# Altium schematic symbol library Microchip Power Management MOSFET Driver.SchLib: 509 symbols (part 13 of 13)
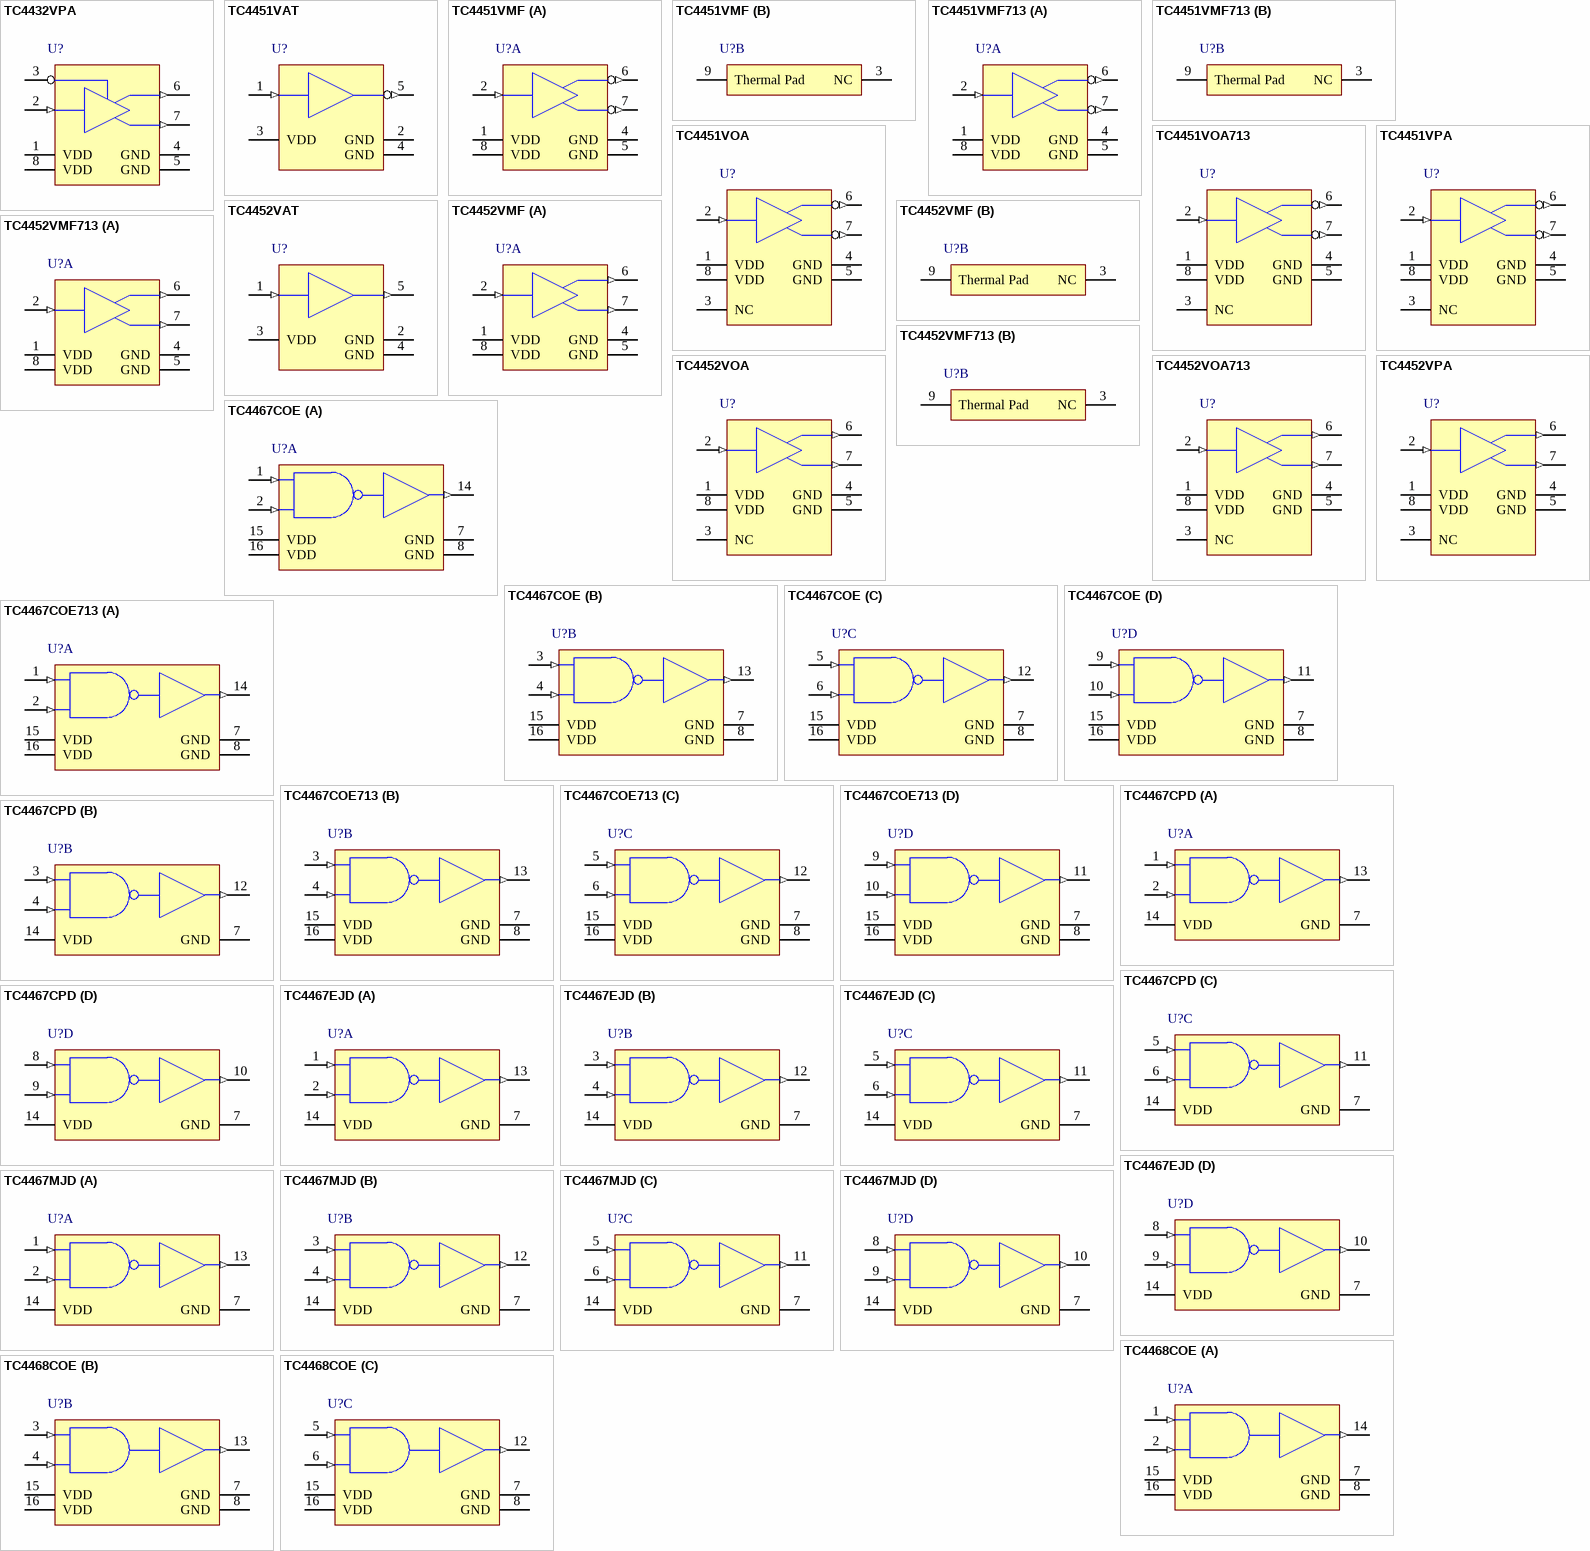
[diagram p38: symbols TC4432VPA to TC4468COE]

## TC4451VOA713
designator U?
12A High-Speed MOSFET Drivers, Inverting, Extended Temperature, Tape and Reel; Manufacturer: Microchip; PartNumber: TC4451VOA713; DatasheetVersion: revA, Feb-2006; PackageVersion: revBB, Aug-2009; PackageReference: SOIC-OA8; PackageDescription: 8-Lead Plastic Small Outline (OA) - Narrow, 3.90mm Body [SOIC]; Supplier 1: Digi-Key; Supplier Part Number 1: TC4451VOA713-ND; Supplier 2: Mouser; Supplier Part Number 2: 579-TC4451VOA713; Mounting Technology: Surface Mount; Code_IPC: SOIC127P600-8; ComponentLink1Description: Manufacturer URL; ComponentLink1URL: http://www.microchip.com/; ComponentLink2Description: Datasheet; ComponentLink2URL: http://ww1.microchip.com/downloads/en/DeviceDoc/21987a.pdf; ComponentLink3Description: Package Specification; ComponentLink3URL: http://www.microchip.com/stellent/groups/techpub_sg/documents/packagingspec/en012702.pdf
footprint SOIC-OA8_N (SOIC, 8-Leads, Body 4.9x3.9mm, Pitch 1.27mm, IPC Medium Density)
footprint SOIC-OA8_L (SOIC, 8-Leads, Body 4.9x3.9mm, Pitch 1.27mm, IPC High Density)
footprint SOIC-OA8_M (SOIC, 8-Leads, Body 4.9x3.9mm, Pitch 1.27mm, IPC Low Density)
pins: 1 VDD (power), 2 IN (in), 3 NC, 4 GND (power), 5 GND (power), 6 ~{OUT} (out), 7 ~{OUT} (out), 8 VDD (power)

## TC4451VPA
designator U?
12A High-Speed MOSFET Drivers, Inverting, Extended Temperature; Manufacturer: Microchip; PartNumber: TC4451VPA; DatasheetVersion: revA, Feb-2006; PackageVersion: revBB, Aug-2009; PackageReference: PDIP300-PA8; PackageDescription: 8-Lead Plastic Dual In-Line (PA) - 300 mil Body [PDIP]; Supplier 1: Digi-Key; Supplier Part Number 1: TC4451VPA-ND; Supplier 2: Farnell; Supplier Part Number 2: 1557420; Supplier 3: Newark; Supplier Part Number 3: 56K7434; Supplier 4: Mouser; Supplier Part Number 4: 579-TC4451VPA; Mounting Technology: Through Hole; Code_JEDEC: MS-001-BA; ComponentLink1Description: Manufacturer URL; ComponentLink1URL: http://www.microchip.com/; ComponentLink2Description: Datasheet; ComponentLink2URL: http://ww1.microchip.com/downloads/en/DeviceDoc/21987a.pdf; ComponentLink3Description: Package Specification; ComponentLink3URL: http://www.microchip.com/stellent/groups/techpub_sg/documents/packagingspec/en012702.pdf
footprint PDIP300-PA8 (DIP, 8-Leads, Row Spacing 7.62mm, Pitch 2.54mm, Body 9.5x6.6mm)
pins: 1 VDD (power), 2 IN (in), 3 NC, 4 GND (power), 5 GND (power), 6 ~{OUT} (out), 7 ~{OUT} (out), 8 VDD (power)

## TC4452VAT
designator U?
12A High-Speed MOSFET Driver, Non Inverting, Extended Temperature; Manufacturer: Microchip; PartNumber: TC4452VAT; DatasheetVersion: revA, Feb-2006; PackageVersion: revBB, Aug-2009; PackageReference: TO-220-AT5; PackageDescription: 5-Lead Plastic Transistor Outline (AT) [TO-220]; Supplier 1: Digi-Key; Supplier Part Number 1: TC4452VAT-ND; Supplier 2: Farnell; Supplier Part Number 2: 1332315; Supplier 3: Newark; Supplier Part Number 3: 34M8783; Supplier 4: Mouser; Supplier Part Number 4: 579-TC4452VAT; Mounting Technology: Through Hole; ComponentLink1Description: Manufacturer URL; ComponentLink1URL: http://www.microchip.com/; ComponentLink2Description: Datasheet; ComponentLink2URL: http://ww1.microchip.com/downloads/en/DeviceDoc/21987a.pdf; ComponentLink3Description: Package Specification; ComponentLink3URL: http://www.microchip.com/stellent/groups/techpub_sg/documents/packagingspec/en012702.pdf
footprint TO-220-AT5 (TO, Thru-Hole, Vertical, Heatsink Mounted; 5 In-Line Leads; Pitch 1.70 mm)
pins: 1 IN (in), 2 GND (power), 3 VDD (power), 4 GND (power), 5 OUT (out)

## TC4452VMF
designator U?
12A High-Speed MOSFET Drivers, Non Inverting, Extended Temperature; Manufacturer: Microchip; PartNumber: TC4452VMF; DatasheetVersion: revA, Feb-2006; PackageVersion: revBB, Aug-2009; PackageReference: DFN-MF8; PackageDescription: 8-Lead Plastic Dual Flat, No Lead Package (MF) - 3x3x0.9mm Body [DFN]; Supplier 1: Digi-Key; Supplier Part Number 1: TC4452VMF-ND; Supplier 2: Mouser; Supplier Part Number 2: 579-TC4452VMF; Mounting Technology: Surface Mount; ComponentLink1Description: Manufacturer URL; ComponentLink1URL: http://www.microchip.com/; ComponentLink2Description: Datasheet; ComponentLink2URL: http://ww1.microchip.com/downloads/en/DeviceDoc/21987a.pdf; ComponentLink3Description: Package Specification; ComponentLink3URL: http://www.microchip.com/stellent/groups/techpub_sg/documents/packagingspec/en012702.pdf
footprint DFN-MF8 (SON, 8-Leads, Body 3x3mm, Pitch 0.65mm, Microchip Recommended)
part A pins: 1 VDD (power), 2 IN (in), 4 GND (power), 5 GND (power), 6 OUT (out), 7 OUT (out), 8 VDD (power)
part B pins: 3 NC, 9 Thermal Pad

## TC4452VMF713
designator U?
12A High-Speed MOSFET Drivers, Non Inverting, Extended Temperature, Tape and Reel; Manufacturer: Microchip; PartNumber: TC4452VMF713; DatasheetVersion: revA, Feb-2006; PackageVersion: revBB, Aug-2009; PackageReference: DFN-MF8; PackageDescription: 8-Lead Plastic Dual Flat, No Lead Package (MF) - 3x3x0.9mm Body [DFN]; Supplier 1: Digi-Key; Supplier Part Number 1: TC4452VMF713-ND; Supplier 2: Mouser; Supplier Part Number 2: 579-TC4452VMF713; Mounting Technology: Surface Mount; ComponentLink1Description: Manufacturer URL; ComponentLink1URL: http://www.microchip.com/; ComponentLink2Description: Datasheet; ComponentLink2URL: http://ww1.microchip.com/downloads/en/DeviceDoc/21987a.pdf; ComponentLink3Description: Package Specification; ComponentLink3URL: http://www.microchip.com/stellent/groups/techpub_sg/documents/packagingspec/en012702.pdf
footprint DFN-MF8 (SON, 8-Leads, Body 3x3mm, Pitch 0.65mm, Microchip Recommended)
part A pins: 1 VDD (power), 2 IN (in), 4 GND (power), 5 GND (power), 6 OUT (out), 7 OUT (out), 8 VDD (power)
part B pins: 3 NC, 9 Thermal Pad

## TC4452VOA
designator U?
12A High-Speed MOSFET Drivers, Non Inverting, Extended Temperature; Manufacturer: Microchip; PartNumber: TC4452VOA; DatasheetVersion: revA, Feb-2006; PackageVersion: revBB, Aug-2009; PackageReference: SOIC-OA8; PackageDescription: 8-Lead Plastic Small Outline (OA) - Narrow, 3.90mm Body [SOIC]; Supplier 1: Digi-Key; Supplier Part Number 1: TC4452VOA-ND; Supplier 2: Farnell; Supplier Part Number 2: 1332316; Supplier 3: Newark; Supplier Part Number 3: 56K7438; Supplier 4: Mouser; Supplier Part Number 4: 579-TC4452VOA; Mounting Technology: Surface Mount; Code_IPC: SOIC127P600-8; ComponentLink1Description: Manufacturer URL; ComponentLink1URL: http://www.microchip.com/; ComponentLink2Description: Datasheet; ComponentLink2URL: http://ww1.microchip.com/downloads/en/DeviceDoc/21987a.pdf; ComponentLink3Description: Package Specification; ComponentLink3URL: http://www.microchip.com/stellent/groups/techpub_sg/documents/packagingspec/en012702.pdf
footprint SOIC-OA8_N (SOIC, 8-Leads, Body 4.9x3.9mm, Pitch 1.27mm, IPC Medium Density)
footprint SOIC-OA8_L (SOIC, 8-Leads, Body 4.9x3.9mm, Pitch 1.27mm, IPC High Density)
footprint SOIC-OA8_M (SOIC, 8-Leads, Body 4.9x3.9mm, Pitch 1.27mm, IPC Low Density)
pins: 1 VDD (power), 2 IN (in), 3 NC, 4 GND (power), 5 GND (power), 6 OUT (out), 7 OUT (out), 8 VDD (power)

## TC4452VOA713
designator U?
12A High-Speed MOSFET Drivers, Non Inverting, Extended Temperature, Tape and Reel; Manufacturer: Microchip; PartNumber: TC4452VOA713; DatasheetVersion: revA, Feb-2006; PackageVersion: revBB, Aug-2009; PackageReference: SOIC-OA8; PackageDescription: 8-Lead Plastic Small Outline (OA) - Narrow, 3.90mm Body [SOIC]; Supplier 1: Digi-Key; Supplier Part Number 1: TC4452VOA713-ND; Supplier 2: Mouser; Supplier Part Number 2: 579-TC4452VOA713; Mounting Technology: Surface Mount; Code_IPC: SOIC127P600-8; ComponentLink1Description: Manufacturer URL; ComponentLink1URL: http://www.microchip.com/; ComponentLink2Description: Datasheet; ComponentLink2URL: http://ww1.microchip.com/downloads/en/DeviceDoc/21987a.pdf; ComponentLink3Description: Package Specification; ComponentLink3URL: http://www.microchip.com/stellent/groups/techpub_sg/documents/packagingspec/en012702.pdf
footprint SOIC-OA8_N (SOIC, 8-Leads, Body 4.9x3.9mm, Pitch 1.27mm, IPC Medium Density)
footprint SOIC-OA8_L (SOIC, 8-Leads, Body 4.9x3.9mm, Pitch 1.27mm, IPC High Density)
footprint SOIC-OA8_M (SOIC, 8-Leads, Body 4.9x3.9mm, Pitch 1.27mm, IPC Low Density)
pins: 1 VDD (power), 2 IN (in), 3 NC, 4 GND (power), 5 GND (power), 6 OUT (out), 7 OUT (out), 8 VDD (power)

## TC4452VPA
designator U?
12A High-Speed MOSFET Drivers, Non Inverting, Extended Temperature; Manufacturer: Microchip; PartNumber: TC4452VPA; DatasheetVersion: revA, Feb-2006; PackageVersion: revBB, Aug-2009; PackageReference: PDIP300-PA8; PackageDescription: 8-Lead Plastic Dual In-Line (PA) - 300 mil Body [PDIP]; Supplier 1: Digi-Key; Supplier Part Number 1: TC4452VPA-ND; Supplier 2: Farnell; Supplier Part Number 2: 1467708; Supplier 3: Newark; Supplier Part Number 3: 56K7440; Supplier 4: Mouser; Supplier Part Number 4: 579-TC4452VPA; Mounting Technology: Through Hole; Code_JEDEC: MS-001-BA; ComponentLink1Description: Manufacturer URL; ComponentLink1URL: http://www.microchip.com/; ComponentLink2Description: Datasheet; ComponentLink2URL: http://ww1.microchip.com/downloads/en/DeviceDoc/21987a.pdf; ComponentLink3Description: Package Specification; ComponentLink3URL: http://www.microchip.com/stellent/groups/techpub_sg/documents/packagingspec/en012702.pdf
footprint PDIP300-PA8 (DIP, 8-Leads, Row Spacing 7.62mm, Pitch 2.54mm, Body 9.5x6.6mm)
pins: 1 VDD (power), 2 IN (in), 3 NC, 4 GND (power), 5 GND (power), 6 OUT (out), 7 OUT (out), 8 VDD (power)

## TC4467COE
designator U?
1.2A Quad MOSFET Driver, NAND, Commercial Temperature; Manufacturer: Microchip; PartNumber: TC4467COE; DatasheetVersion: revB, Feb-2003; PackageVersion: revBB, Aug-2009; PackageReference: SOIC-OE16; PackageDescription: 16-Lead Plastic Small Outline (OE) - Wide 7.50mm Body [SOIC]; Supplier 1: Digi-Key; Supplier Part Number 1: TC4467COE-ND; Supplier 2: Newark; Supplier Part Number 2: 92C6148; Supplier 3: Mouser; Supplier Part Number 3: 579-TC4467COE; Mounting Technology: Surface Mount; Code_JEDEC: MS-013-AA; Code_IPC: SOIC127P1030-16; ComponentLink1Description: Manufacturer URL; ComponentLink1URL: http://www.microchip.com/; ComponentLink2Description: Datasheet; ComponentLink2URL: http://ww1.microchip.com/downloads/en/DeviceDoc/21425b.pdf; ComponentLink3Description: Package Specification; ComponentLink3URL: http://www.microchip.com/stellent/groups/techpub_sg/documents/packagingspec/en012702.pdf
footprint SOIC-OE16_N (SOIC, 16-Leads, Body 10.3x7.5mm, Pitch 1.27mm, IPC Medium Density)
footprint SOIC-OE16_L (SOIC, 16-Leads, Body 10.3x7.5mm, Pitch 1.27mm, IPC High Density)
footprint SOIC-OE16_M (SOIC, 16-Leads, Body 10.3x7.5mm, Pitch 1.27mm, IPC Low Density)
pins on every part: 7 GND (power), 8 GND (power), 15 VDD (power), 16 VDD (power)
part A pins: 1 1A (in), 2 1B (in), 14 1Y (out)
part B pins: 3 2A (in), 4 2B (in), 13 2Y (out)
part C pins: 5 3A (in), 6 3B (in), 12 3Y (out)
part D pins: 9 4A (in), 10 4B (in), 11 4Y (out)

## TC4467COE713
designator U?
1.2A Quad MOSFET Driver, NAND, Commercial Temperature, Tape and Reel; Manufacturer: Microchip; PartNumber: TC4467COE713; DatasheetVersion: revB, Feb-2003; PackageVersion: revBB, Aug-2009; PackageReference: SOIC-OE16; PackageDescription: 16-Lead Plastic Small Outline (OE) - Wide 7.50mm Body [SOIC]; Supplier 1: Digi-Key; Supplier Part Number 1: TC4467COE713-ND; Supplier 2: Mouser; Supplier Part Number 2: 579-TC4467COE713; Mounting Technology: Surface Mount; Code_JEDEC: MS-013-AA; Code_IPC: SOIC127P1030-16; ComponentLink1Description: Manufacturer URL; ComponentLink1URL: http://www.microchip.com/; ComponentLink2Description: Datasheet; ComponentLink2URL: http://ww1.microchip.com/downloads/en/DeviceDoc/21425b.pdf; ComponentLink3Description: Package Specification; ComponentLink3URL: http://www.microchip.com/stellent/groups/techpub_sg/documents/packagingspec/en012702.pdf
footprint SOIC-OE16_N (SOIC, 16-Leads, Body 10.3x7.5mm, Pitch 1.27mm, IPC Medium Density)
footprint SOIC-OE16_L (SOIC, 16-Leads, Body 10.3x7.5mm, Pitch 1.27mm, IPC High Density)
footprint SOIC-OE16_M (SOIC, 16-Leads, Body 10.3x7.5mm, Pitch 1.27mm, IPC Low Density)
pins on every part: 7 GND (power), 8 GND (power), 15 VDD (power), 16 VDD (power)
part A pins: 1 1A (in), 2 1B (in), 14 1Y (out)
part B pins: 3 2A (in), 4 2B (in), 13 2Y (out)
part C pins: 5 3A (in), 6 3B (in), 12 3Y (out)
part D pins: 9 4A (in), 10 4B (in), 11 4Y (out)

## TC4467CPD
designator U?
1.2A Quad MOSFET Driver, NAND, Commercial Temperature; Manufacturer: Microchip; PartNumber: TC4467CPD; DatasheetVersion: revB, Feb-2003; PackageVersion: revBB, Aug-2009; PackageReference: PDIP300-PD14; PackageDescription: 14-Lead Plastic Dual In-Line (PD) - 300 mil Body [PDIP]; Supplier 1: Digi-Key; Supplier Part Number 1: TC4467CPD-ND; Supplier 2: Newark; Supplier Part Number 2: 92C6150; Supplier 3: Mouser; Supplier Part Number 3: 579-TC4467CPD; Mounting Technology: Through Hole; Code_JEDEC: MS-001-AA; ComponentLink1Description: Manufacturer URL; ComponentLink1URL: http://www.microchip.com/; ComponentLink2Description: Datasheet; ComponentLink2URL: http://ww1.microchip.com/downloads/en/DeviceDoc/21425b.pdf; ComponentLink3Description: Package Specification; ComponentLink3URL: http://www.microchip.com/stellent/groups/techpub_sg/documents/packagingspec/en012702.pdf
footprint PDIP300-PD14 (DIP, 14-Leads, Row Spacing 7.62mm, Pitch 2.54mm, Body 19.2x6.6mm)
pins on every part: 7 GND (power), 14 VDD (power)
part A pins: 1 1A (in), 2 1B (in), 13 1Y (out)
part B pins: 3 2A (in), 4 2B (in), 12 2Y (out)
part C pins: 5 3A (in), 6 3B (in), 11 3Y (out)
part D pins: 8 4A (in), 9 4B (in), 10 4Y (out)

## TC4467EJD
designator U?
1.2A Quad MOSFET Driver, NAND, Industrial Temperature; Manufacturer: Microchip; PartNumber: TC4467EJD; DatasheetVersion: revB, Feb-2003; PackageVersion: revBB, Aug-2009; PackageReference: CERDIP300-JD14; PackageDescription: 14-Lead Ceramic Dual In-Line (JD) - 300mil Body [CERDIP]; Supplier 1: Digi-Key; Supplier Part Number 1: TC4467EJD-ND; Supplier 2: Mouser; Supplier Part Number 2: 579-TC4467EJD; Mounting Technology: Through Hole; ComponentLink1Description: Manufacturer URL; ComponentLink1URL: http://www.microchip.com/; ComponentLink2Description: Datasheet; ComponentLink2URL: http://ww1.microchip.com/downloads/en/DeviceDoc/21425b.pdf; ComponentLink3Description: Package Specification; ComponentLink3URL: http://www.microchip.com/stellent/groups/techpub_sg/documents/packagingspec/en012702.pdf
footprint CERDIP300-JD14 (DIP, 14-Leads, Row Spacing 7.62mm, Pitch 2.54mm, Body 19.3x6.7mm)
pins on every part: 7 GND (power), 14 VDD (power)
part A pins: 1 1A (in), 2 1B (in), 13 1Y (out)
part B pins: 3 2A (in), 4 2B (in), 12 2Y (out)
part C pins: 5 3A (in), 6 3B (in), 11 3Y (out)
part D pins: 8 4A (in), 9 4B (in), 10 4Y (out)

## TC4467MJD
designator U?
1.2A Quad MOSFET Driver, NAND, -55C to +125C Temperature; Manufacturer: Microchip; PartNumber: TC4467MJD; DatasheetVersion: revB, Feb-2003; PackageVersion: revBB, Aug-2009; PackageReference: CERDIP300-JD14; PackageDescription: 14-Lead Ceramic Dual In-Line (JD) - 300mil Body [CERDIP]; Supplier 1: Digi-Key; Supplier Part Number 1: TC4467MJD-ND; Supplier 2: Mouser; Supplier Part Number 2: 579-TC4467MJD; Mounting Technology: Through Hole; ComponentLink1Description: Manufacturer URL; ComponentLink1URL: http://www.microchip.com/; ComponentLink2Description: Datasheet; ComponentLink2URL: http://ww1.microchip.com/downloads/en/DeviceDoc/21425b.pdf; ComponentLink3Description: Package Specification; ComponentLink3URL: http://www.microchip.com/stellent/groups/techpub_sg/documents/packagingspec/en012702.pdf
footprint CERDIP300-JD14 (DIP, 14-Leads, Row Spacing 7.62mm, Pitch 2.54mm, Body 19.3x6.7mm)
pins on every part: 7 GND (power), 14 VDD (power)
part A pins: 1 1A (in), 2 1B (in), 13 1Y (out)
part B pins: 3 2A (in), 4 2B (in), 12 2Y (out)
part C pins: 5 3A (in), 6 3B (in), 11 3Y (out)
part D pins: 8 4A (in), 9 4B (in), 10 4Y (out)

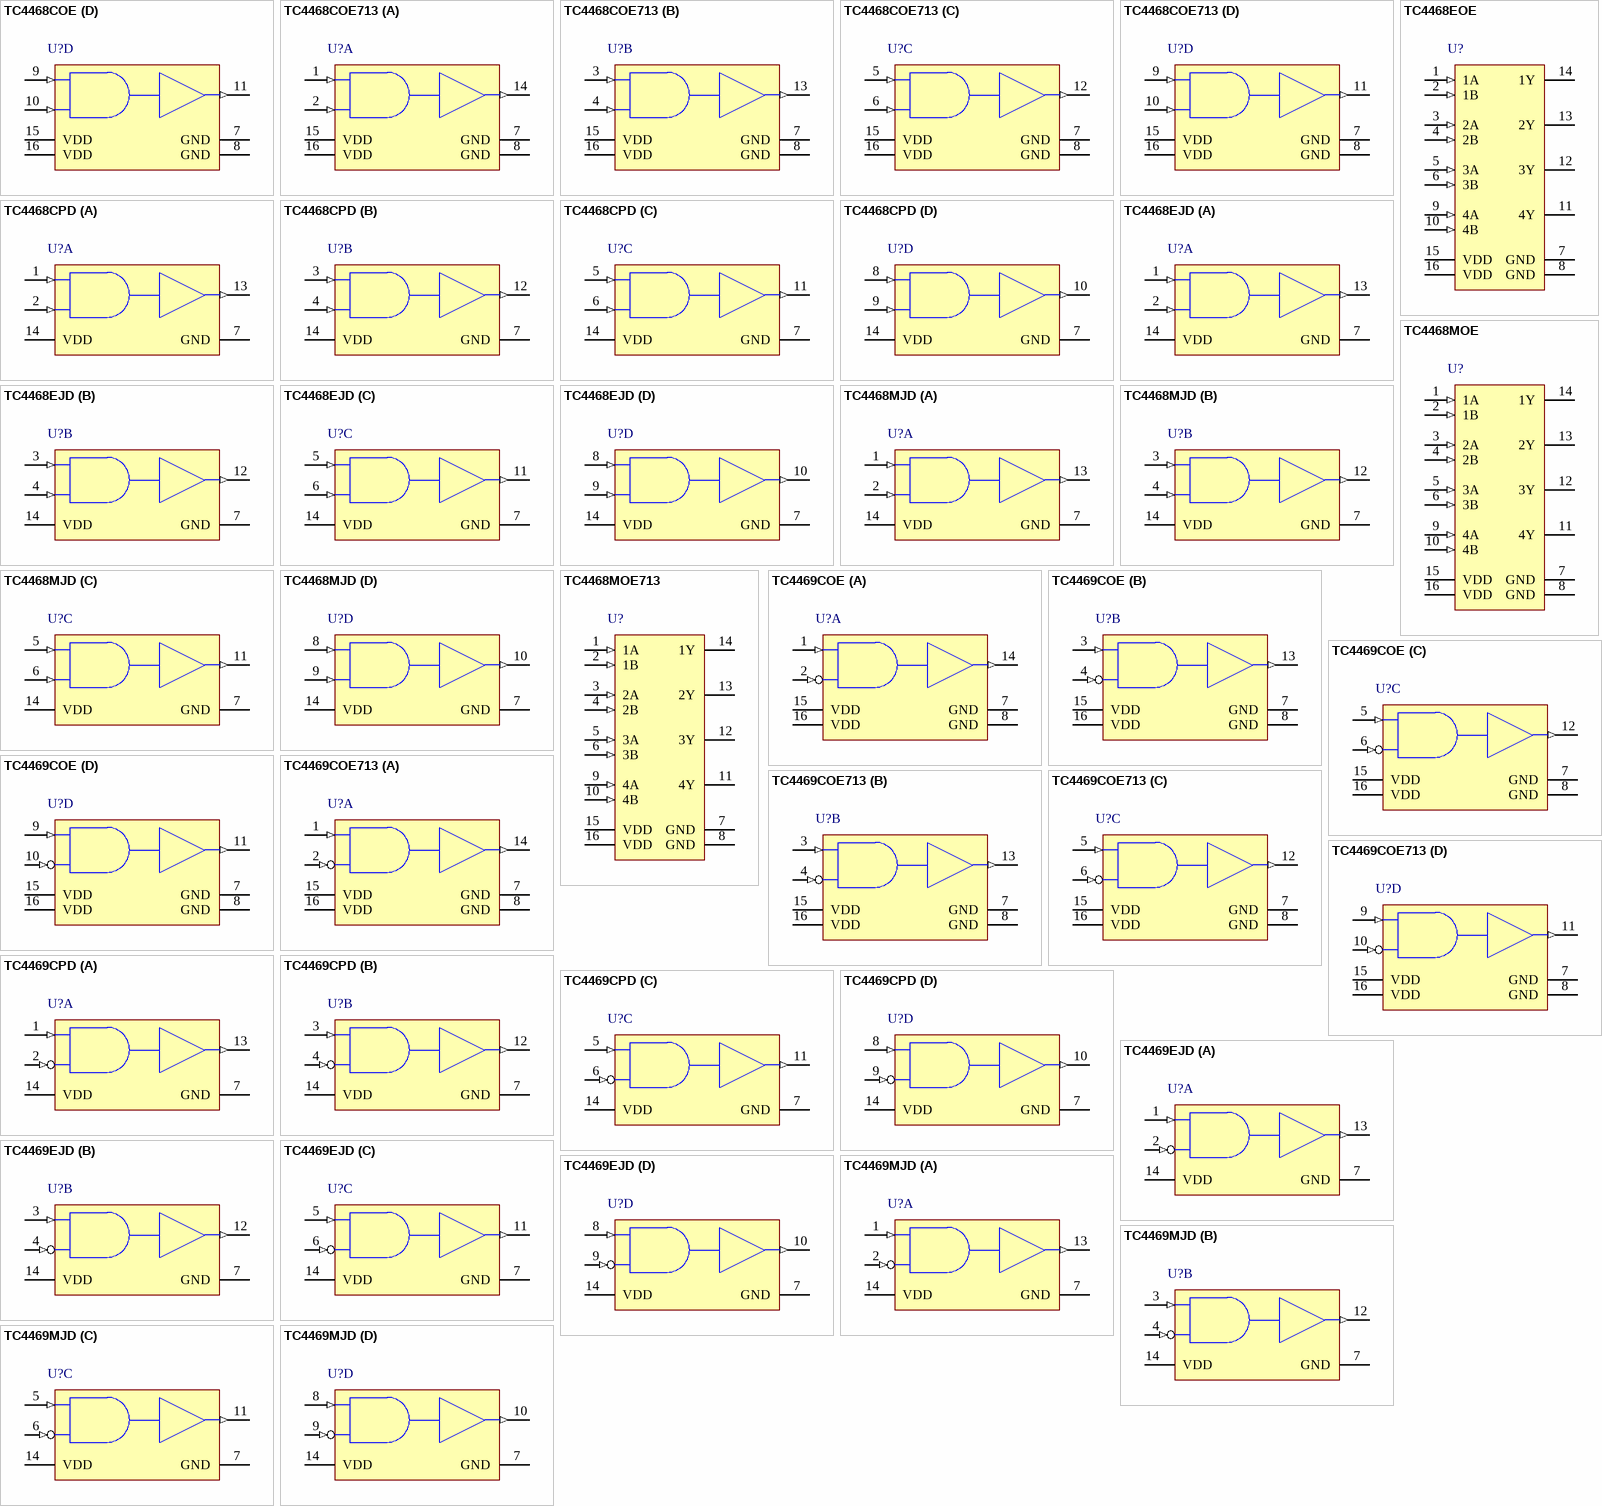
[diagram p25: symbols TC4468COE to TC4469MJD]

## TC4468COE
designator U?
1.2A Quad MOSFET Driver, AND, Commercial Temperature; Manufacturer: Microchip; PartNumber: TC4468COE; DatasheetVersion: revB, Feb-2003; PackageVersion: revBB, Aug-2009; PackageReference: SOIC-OE16; PackageDescription: 16-Lead Plastic Small Outline (OE) - Wide 7.50mm Body [SOIC]; Supplier 1: Digi-Key; Supplier Part Number 1: TC4468COE-ND; Supplier 2: Farnell; Supplier Part Number 2: 1439738; Supplier 3: Newark; Supplier Part Number 3: 92C6153; Supplier 4: Mouser; Supplier Part Number 4: 579-TC4468COE; Mounting Technology: Surface Mount; Code_JEDEC: MS-013-AA; Code_IPC: SOIC127P1030-16; ComponentLink1Description: Manufacturer URL; ComponentLink1URL: http://www.microchip.com/; ComponentLink2Description: Datasheet; ComponentLink2URL: http://ww1.microchip.com/downloads/en/DeviceDoc/21425b.pdf; ComponentLink3Description: Package Specification; ComponentLink3URL: http://www.microchip.com/stellent/groups/techpub_sg/documents/packagingspec/en012702.pdf
footprint SOIC-OE16_N (SOIC, 16-Leads, Body 10.3x7.5mm, Pitch 1.27mm, IPC Medium Density)
footprint SOIC-OE16_L (SOIC, 16-Leads, Body 10.3x7.5mm, Pitch 1.27mm, IPC High Density)
footprint SOIC-OE16_M (SOIC, 16-Leads, Body 10.3x7.5mm, Pitch 1.27mm, IPC Low Density)
pins on every part: 7 GND (power), 8 GND (power), 15 VDD (power), 16 VDD (power)
part A pins: 1 1A (in), 2 1B (in), 14 1Y (out)
part B pins: 3 2A (in), 4 2B (in), 13 2Y (out)
part C pins: 5 3A (in), 6 3B (in), 12 3Y (out)
part D pins: 9 4A (in), 10 4B (in), 11 4Y (out)

## TC4468COE713
designator U?
1.2A Quad MOSFET Driver, AND, Commercial Temperature, Tape and Reel; Manufacturer: Microchip; PartNumber: TC4468COE713; DatasheetVersion: revB, Feb-2003; PackageVersion: revBB, Aug-2009; PackageReference: SOIC-OE16; PackageDescription: 16-Lead Plastic Small Outline (OE) - Wide 7.50mm Body [SOIC]; Supplier 1: Digi-Key; Supplier Part Number 1: TC4468COE713-ND; Supplier 2: Mouser; Supplier Part Number 2: 579-TC4468COE713; Mounting Technology: Surface Mount; Code_JEDEC: MS-013-AA; Code_IPC: SOIC127P1030-16; ComponentLink1Description: Manufacturer URL; ComponentLink1URL: http://www.microchip.com/; ComponentLink2Description: Datasheet; ComponentLink2URL: http://ww1.microchip.com/downloads/en/DeviceDoc/21425b.pdf; ComponentLink3Description: Package Specification; ComponentLink3URL: http://www.microchip.com/stellent/groups/techpub_sg/documents/packagingspec/en012702.pdf
footprint SOIC-OE16_N (SOIC, 16-Leads, Body 10.3x7.5mm, Pitch 1.27mm, IPC Medium Density)
footprint SOIC-OE16_L (SOIC, 16-Leads, Body 10.3x7.5mm, Pitch 1.27mm, IPC High Density)
footprint SOIC-OE16_M (SOIC, 16-Leads, Body 10.3x7.5mm, Pitch 1.27mm, IPC Low Density)
pins on every part: 7 GND (power), 8 GND (power), 15 VDD (power), 16 VDD (power)
part A pins: 1 1A (in), 2 1B (in), 14 1Y (out)
part B pins: 3 2A (in), 4 2B (in), 13 2Y (out)
part C pins: 5 3A (in), 6 3B (in), 12 3Y (out)
part D pins: 9 4A (in), 10 4B (in), 11 4Y (out)

## TC4468CPD
designator U?
1.2A Quad MOSFET Driver, AND, Commercial Temperature; Manufacturer: Microchip; PartNumber: TC4468CPD; DatasheetVersion: revB, Feb-2003; PackageVersion: revBB, Aug-2009; PackageReference: PDIP300-PD14; PackageDescription: 14-Lead Plastic Dual In-Line (PD) - 300 mil Body [PDIP]; Supplier 1: Digi-Key; Supplier Part Number 1: TC4468CPD-ND; Supplier 2: Farnell; Supplier Part Number 2: 1557406; Supplier 3: Newark; Supplier Part Number 3: 54K2859; Supplier 4: Mouser; Supplier Part Number 4: 579-TC4468CPD; Mounting Technology: Through Hole; Code_JEDEC: MS-001-AA; ComponentLink1Description: Manufacturer URL; ComponentLink1URL: http://www.microchip.com/; ComponentLink2Description: Datasheet; ComponentLink2URL: http://ww1.microchip.com/downloads/en/DeviceDoc/21425b.pdf; ComponentLink3Description: Package Specification; ComponentLink3URL: http://www.microchip.com/stellent/groups/techpub_sg/documents/packagingspec/en012702.pdf
footprint PDIP300-PD14 (DIP, 14-Leads, Row Spacing 7.62mm, Pitch 2.54mm, Body 19.2x6.6mm)
pins on every part: 7 GND (power), 14 VDD (power)
part A pins: 1 1A (in), 2 1B (in), 13 1Y (out)
part B pins: 3 2A (in), 4 2B (in), 12 2Y (out)
part C pins: 5 3A (in), 6 3B (in), 11 3Y (out)
part D pins: 8 4A (in), 9 4B (in), 10 4Y (out)

## TC4468EJD
designator U?
1.2A Quad MOSFET Driver, AND, Industrial Temperature; Manufacturer: Microchip; PartNumber: TC4468EJD; DatasheetVersion: revB, Feb-2003; PackageVersion: revBB, Aug-2009; PackageReference: CERDIP300-JD14; PackageDescription: 14-Lead Ceramic Dual In-Line (JD) - 300mil Body [CERDIP]; Supplier 1: Digi-Key; Supplier Part Number 1: TC4468EJD-ND; Supplier 2: Mouser; Supplier Part Number 2: 579-TC4468EJD; Mounting Technology: Through Hole; ComponentLink1Description: Manufacturer URL; ComponentLink1URL: http://www.microchip.com/; ComponentLink2Description: Datasheet; ComponentLink2URL: http://ww1.microchip.com/downloads/en/DeviceDoc/21425b.pdf; ComponentLink3Description: Package Specification; ComponentLink3URL: http://www.microchip.com/stellent/groups/techpub_sg/documents/packagingspec/en012702.pdf
footprint CERDIP300-JD14 (DIP, 14-Leads, Row Spacing 7.62mm, Pitch 2.54mm, Body 19.3x6.7mm)
pins on every part: 7 GND (power), 14 VDD (power)
part A pins: 1 1A (in), 2 1B (in), 13 1Y (out)
part B pins: 3 2A (in), 4 2B (in), 12 2Y (out)
part C pins: 5 3A (in), 6 3B (in), 11 3Y (out)
part D pins: 8 4A (in), 9 4B (in), 10 4Y (out)

## TC4468EOE
designator U?
Logic-Input CMOS Quad Drivers, Max Supply Voltage 18 V, -40 to 85 degC, 16-pin SOIC (SO16), Tube; Manufacturer: Microchip; PartNumber: TC4468EOE; DatasheetVersion: Rev. B; PackageVersion: C04-102C; PackageReference: SOIC-SO16; PackageDescription: 16-Lead Plastic Small Outline, 10.3 x 7.5 mm Body, 1.27 mm Pitch; Supplier 1: Digi-Key; Supplier Part Number 1: TC4468EOE-ND; Supplier 2: Farnell; Supplier Part Number 2: 1840858; Supplier 3: Newark; Supplier Part Number 3: 56J8344; Supplier 4: Mouser; Supplier Part Number 4: 579-TC4468EOE; Mounting Technology: Surface Mount; ComponentLink1Description: Manufacturer URL; ComponentLink1URL: http://www.microchip.com; ComponentLink2Description: Datasheet; ComponentLink2URL: http://ww1.microchip.com/downloads/en/DeviceDoc/21425b.pdf; ComponentLink3Description: Package Specification; ComponentLink3URL: http://www.microchip.com/stellent/groups/techpub_sg/documents/packagingspec/en012702.pdf; ComponentLink4Description: Product URL; ComponentLink4URL: http://www.microchip.com/TC4468
footprint MCHP-SOIC-SO16_N (SOIC, 16-Leads, Body 10.3x7.5mm, Pitch 1.27mm, IPC Medium Density)
footprint MCHP-SOIC-SO16_L (SOIC, 16-Leads, Body 10.3x7.5mm, Pitch 1.27mm, IPC High Density)
footprint MCHP-SOIC-SO16_M (SOIC, 16-Leads, Body 10.3x7.5mm, Pitch 1.27mm, IPC Low Density)
pins: 1 1A (in) "Input A for Driver 1, TTL/CMOS Compatible Input", 2 1B (in) "Input B for Driver 1, TTL/CMOS Compatible Input", 3 2A (in) "Input A for Driver 2, TTL/CMOS Compatible Input", 4 2B (in) "Input B for Driver 2, TTL/CMOS Compatible Input", 5 3A (in) "Input A for Driver 3, TTL/CMOS Compatible Input", 6 3B (in) "Input B for Driver 3, TTL/CMOS Compatible Input", 7 GND (power) "Ground", 8 GND (power) "Ground", 9 4A (in) "Input A for Driver 4, TTL/CMOS Compatible Input", 10 4B (in) "Input B for Driver 4, TTL/CMOS Compatible Input", 11 4Y (power) "Output for Driver 4, CMOS Push-Pull Output", 12 3Y (power) "Output for Driver 3, CMOS Push-Pull Output", 13 2Y (power) "Output for Driver 2, CMOS Push-Pull Output", 14 1Y (power) "Output for Driver 1, CMOS Push-Pull Output", 15 VDD (power) "Supply Input, 4.5 V to 18 V", 16 VDD (power) "Supply Input, 4.5 V to 18 V"

## TC4468MJD
designator U?
1.2A Quad MOSFET Driver, AND, -55C to +125C Temperature; Manufacturer: Microchip; PartNumber: TC4468MJD; DatasheetVersion: revB, Feb-2003; PackageVersion: revBB, Aug-2009; PackageReference: CERDIP300-JD14; PackageDescription: 14-Lead Ceramic Dual In-Line (JD) - 300mil Body [CERDIP]; Supplier 1: Digi-Key; Supplier Part Number 1: TC4468MJD-ND; Supplier 2: Mouser; Supplier Part Number 2: 579-TC4468MJD; Mounting Technology: Through Hole; ComponentLink1Description: Manufacturer URL; ComponentLink1URL: http://www.microchip.com/; ComponentLink2Description: Datasheet; ComponentLink2URL: http://ww1.microchip.com/downloads/en/DeviceDoc/21425b.pdf; ComponentLink3Description: Package Specification; ComponentLink3URL: http://www.microchip.com/stellent/groups/techpub_sg/documents/packagingspec/en012702.pdf
footprint CERDIP300-JD14 (DIP, 14-Leads, Row Spacing 7.62mm, Pitch 2.54mm, Body 19.3x6.7mm)
pins on every part: 7 GND (power), 14 VDD (power)
part A pins: 1 1A (in), 2 1B (in), 13 1Y (out)
part B pins: 3 2A (in), 4 2B (in), 12 2Y (out)
part C pins: 5 3A (in), 6 3B (in), 11 3Y (out)
part D pins: 8 4A (in), 9 4B (in), 10 4Y (out)

## TC4468MOE
designator U?
Logic-Input CMOS Quad Driver, Max Supply Voltage 18 V, -55 to 125 degC, 16-pin SOIC (SO16), Tube; Manufacturer: Microchip; PartNumber: TC4468MOE; DatasheetVersion: Rev. B; PackageVersion: C04-102C; PackageReference: SOIC-SO16; PackageDescription: 16-Lead Plastic Small Outline, 10.3 x 7.5 mm Body, 1.27 mm Pitch; Supplier 1: Mouser; Supplier Part Number 1: N/A; Mounting Technology: Surface Mount; ComponentLink1Description: Manufacturer URL; ComponentLink1URL: http://www.microchip.com; ComponentLink2Description: Datasheet; ComponentLink2URL: http://ww1.microchip.com/downloads/en/DeviceDoc/21425b.pdf; ComponentLink3Description: Package Specification; ComponentLink3URL: http://www.microchip.com/stellent/groups/techpub_sg/documents/packagingspec/en012702.pdf; ComponentLink4Description: Product URL; ComponentLink4URL: http://www.microchip.com/TC4468
footprint MCHP-SOIC-SO16_N (SOIC, 16-Leads, Body 10.3x7.5mm, Pitch 1.27mm, IPC Medium Density)
footprint MCHP-SOIC-SO16_L (SOIC, 16-Leads, Body 10.3x7.5mm, Pitch 1.27mm, IPC High Density)
footprint MCHP-SOIC-SO16_M (SOIC, 16-Leads, Body 10.3x7.5mm, Pitch 1.27mm, IPC Low Density)
pins: 1 1A (in) "Input A for Driver 1, TTL/CMOS Compatible Input", 2 1B (in) "Input B for Driver 1, TTL/CMOS Compatible Input", 3 2A (in) "Input A for Driver 2, TTL/CMOS Compatible Input", 4 2B (in) "Input B for Driver 2, TTL/CMOS Compatible Input", 5 3A (in) "Input A for Driver 3, TTL/CMOS Compatible Input", 6 3B (in) "Input B for Driver 3, TTL/CMOS Compatible Input", 7 GND (power) "Ground", 8 GND (power) "Ground", 9 4A (in) "Input A for Driver 4, TTL/CMOS Compatible Input", 10 4B (in) "Input B for Driver 4, TTL/CMOS Compatible Input", 11 4Y (power) "Output for Driver 4, CMOS Push-Pull Output", 12 3Y (power) "Output for Driver 3, CMOS Push-Pull Output", 13 2Y (power) "Output for Driver 2, CMOS Push-Pull Output", 14 1Y (power) "Output for Driver 1, CMOS Push-Pull Output", 15 VDD (power) "Supply Input, 4.5 V to 18 V", 16 VDD (power) "Supply Input, 4.5 V to 18 V"

## TC4468MOE713
designator U?
Logic-Input CMOS Quad Drivers, Max Supply Voltage 18 V, -55 to 125 degC, 16-pin SOIC (SO16), Tape and Reel; Manufacturer: Microchip; PartNumber: TC4468MOE713; DatasheetVersion: Rev. B; PackageVersion: C04-102C; PackageReference: SOIC-SO16; PackageDescription: 16-Lead Plastic Small Outline, 10.3 x 7.5 mm Body, 1.27 mm Pitch; Supplier 1: Mouser; Supplier Part Number 1: N/A; Mounting Technology: Surface Mount; ComponentLink1Description: Manufacturer URL; ComponentLink1URL: http://www.microchip.com; ComponentLink2Description: Datasheet; ComponentLink2URL: http://ww1.microchip.com/downloads/en/DeviceDoc/21425b.pdf; ComponentLink3Description: Package Specification; ComponentLink3URL: http://www.microchip.com/stellent/groups/techpub_sg/documents/packagingspec/en012702.pdf; ComponentLink4Description: Product URL; ComponentLink4URL: http://www.microchip.com/TC4468
footprint MCHP-SOIC-SO16_N (SOIC, 16-Leads, Body 10.3x7.5mm, Pitch 1.27mm, IPC Medium Density)
footprint MCHP-SOIC-SO16_L (SOIC, 16-Leads, Body 10.3x7.5mm, Pitch 1.27mm, IPC High Density)
footprint MCHP-SOIC-SO16_M (SOIC, 16-Leads, Body 10.3x7.5mm, Pitch 1.27mm, IPC Low Density)
pins: 1 1A (in) "Input A for Driver 1, TTL/CMOS Compatible Input", 2 1B (in) "Input B for Driver 1, TTL/CMOS Compatible Input", 3 2A (in) "Input A for Driver 2, TTL/CMOS Compatible Input", 4 2B (in) "Input B for Driver 2, TTL/CMOS Compatible Input", 5 3A (in) "Input A for Driver 3, TTL/CMOS Compatible Input", 6 3B (in) "Input B for Driver 3, TTL/CMOS Compatible Input", 7 GND (power) "Ground", 8 GND (power) "Ground", 9 4A (in) "Input A for Driver 4, TTL/CMOS Compatible Input", 10 4B (in) "Input B for Driver 4, TTL/CMOS Compatible Input", 11 4Y (power) "Output for Driver 4, CMOS Push-Pull Output", 12 3Y (power) "Output for Driver 3, CMOS Push-Pull Output", 13 2Y (power) "Output for Driver 2, CMOS Push-Pull Output", 14 1Y (power) "Output for Driver 1, CMOS Push-Pull Output", 15 VDD (power) "Supply Input, 4.5 V to 18 V", 16 VDD (power) "Supply Input, 4.5 V to 18 V"

## TC4469COE
designator U?
1.2A Quad MOSFET Driver, AND/INV, Commercial Temperature; Manufacturer: Microchip; PartNumber: TC4469COE; DatasheetVersion: revB, Feb-2003; PackageVersion: revBB, Aug-2009; PackageReference: SOIC-OE16; PackageDescription: 16-Lead Plastic Small Outline (OE) - Wide 7.50mm Body [SOIC]; Supplier 1: Digi-Key; Supplier Part Number 1: TC4469COE-ND; Supplier 2: Farnell; Supplier Part Number 2: 1292288; Supplier 3: Newark; Supplier Part Number 3: 92C6158; Supplier 4: Mouser; Supplier Part Number 4: 579-TC4469COE; Mounting Technology: Surface Mount; Code_JEDEC: MS-013-AA; Code_IPC: SOIC127P1030-16; ComponentLink1Description: Manufacturer URL; ComponentLink1URL: http://www.microchip.com/; ComponentLink2Description: Datasheet; ComponentLink2URL: http://ww1.microchip.com/downloads/en/DeviceDoc/21425b.pdf; ComponentLink3Description: Package Specification; ComponentLink3URL: http://www.microchip.com/stellent/groups/techpub_sg/documents/packagingspec/en012702.pdf
footprint SOIC-OE16_N (SOIC, 16-Leads, Body 10.3x7.5mm, Pitch 1.27mm, IPC Medium Density)
footprint SOIC-OE16_L (SOIC, 16-Leads, Body 10.3x7.5mm, Pitch 1.27mm, IPC High Density)
footprint SOIC-OE16_M (SOIC, 16-Leads, Body 10.3x7.5mm, Pitch 1.27mm, IPC Low Density)
pins on every part: 7 GND (power), 8 GND (power), 15 VDD (power), 16 VDD (power)
part A pins: 1 1A (in), 2 1B (in), 14 1Y (out)
part B pins: 3 2A (in), 4 2B (in), 13 2Y (out)
part C pins: 5 3A (in), 6 3B (in), 12 3Y (out)
part D pins: 9 4A (in), 10 4B (in), 11 4Y (out)

## TC4469COE713
designator U?
1.2A Quad MOSFET Driver, AND/INV, Commercial Temperature, Tape and Reel; Manufacturer: Microchip; PartNumber: TC4469COE713; DatasheetVersion: revB, Feb-2003; PackageVersion: revBB, Aug-2009; PackageReference: SOIC-OE16; PackageDescription: 16-Lead Plastic Small Outline (OE) - Wide 7.50mm Body [SOIC]; Supplier 1: Digi-Key; Supplier Part Number 1: TC4469COE713TR-ND; Supplier 2: Digi-Key; Supplier Part Number 2: TC4469COE713CT-ND; Supplier 3: Newark; Supplier Part Number 3: 92C6159; Supplier 4: Mouser; Supplier Part Number 4: 579-TC4469COE713; Mounting Technology: Surface Mount; Code_JEDEC: MS-013-AA; Code_IPC: SOIC127P1030-16; ComponentLink1Description: Manufacturer URL; ComponentLink1URL: http://www.microchip.com/; ComponentLink2Description: Datasheet; ComponentLink2URL: http://ww1.microchip.com/downloads/en/DeviceDoc/21425b.pdf; ComponentLink3Description: Package Specification; ComponentLink3URL: http://www.microchip.com/stellent/groups/techpub_sg/documents/packagingspec/en012702.pdf
footprint SOIC-OE16_N (SOIC, 16-Leads, Body 10.3x7.5mm, Pitch 1.27mm, IPC Medium Density)
footprint SOIC-OE16_L (SOIC, 16-Leads, Body 10.3x7.5mm, Pitch 1.27mm, IPC High Density)
footprint SOIC-OE16_M (SOIC, 16-Leads, Body 10.3x7.5mm, Pitch 1.27mm, IPC Low Density)
pins on every part: 7 GND (power), 8 GND (power), 15 VDD (power), 16 VDD (power)
part A pins: 1 1A (in), 2 1B (in), 14 1Y (out)
part B pins: 3 2A (in), 4 2B (in), 13 2Y (out)
part C pins: 5 3A (in), 6 3B (in), 12 3Y (out)
part D pins: 9 4A (in), 10 4B (in), 11 4Y (out)

## TC4469CPD
designator U?
1.2A Quad MOSFET Driver, AND/INV, Commercial Temperature; Manufacturer: Microchip; PartNumber: TC4469CPD; DatasheetVersion: revB, Feb-2003; PackageVersion: revBB, Aug-2009; PackageReference: PDIP300-PD14; PackageDescription: 14-Lead Plastic Dual In-Line (PD) - 300 mil Body [PDIP]; Supplier 1: Digi-Key; Supplier Part Number 1: TC4469CPD-ND; Supplier 2: Farnell; Supplier Part Number 2: 1439739; Supplier 3: Newark; Supplier Part Number 3: 92C6160; Supplier 4: Mouser; Supplier Part Number 4: 579-TC4469CPD; Mounting Technology: Through Hole; Code_JEDEC: MS-001-AA; ComponentLink1Description: Manufacturer URL; ComponentLink1URL: http://www.microchip.com/; ComponentLink2Description: Datasheet; ComponentLink2URL: http://ww1.microchip.com/downloads/en/DeviceDoc/21425b.pdf; ComponentLink3Description: Package Specification; ComponentLink3URL: http://www.microchip.com/stellent/groups/techpub_sg/documents/packagingspec/en012702.pdf
footprint PDIP300-PD14 (DIP, 14-Leads, Row Spacing 7.62mm, Pitch 2.54mm, Body 19.2x6.6mm)
pins on every part: 7 GND (power), 14 VDD (power)
part A pins: 1 1A (in), 2 1B (in), 13 1Y (out)
part B pins: 3 2A (in), 4 2B (in), 12 2Y (out)
part C pins: 5 3A (in), 6 3B (in), 11 3Y (out)
part D pins: 8 4A (in), 9 4B (in), 10 4Y (out)

## TC4469EJD
designator U?
1.2A Quad MOSFET Driver, AND/INV, Industrial Temperature; Manufacturer: Microchip; PartNumber: TC4469EJD; DatasheetVersion: revB, Feb-2003; PackageVersion: revBB, Aug-2009; PackageReference: CERDIP300-JD14; PackageDescription: 14-Lead Ceramic Dual In-Line (JD) - 300mil Body [CERDIP]; Supplier 1: Digi-Key; Supplier Part Number 1: TC4469EJD-ND; Supplier 2: Mouser; Supplier Part Number 2: 579-TC4469EJD; Mounting Technology: Through Hole; ComponentLink1Description: Manufacturer URL; ComponentLink1URL: http://www.microchip.com/; ComponentLink2Description: Datasheet; ComponentLink2URL: http://ww1.microchip.com/downloads/en/DeviceDoc/21425b.pdf; ComponentLink3Description: Package Specification; ComponentLink3URL: http://www.microchip.com/stellent/groups/techpub_sg/documents/packagingspec/en012702.pdf
footprint CERDIP300-JD14 (DIP, 14-Leads, Row Spacing 7.62mm, Pitch 2.54mm, Body 19.3x6.7mm)
pins on every part: 7 GND (power), 14 VDD (power)
part A pins: 1 1A (in), 2 1B (in), 13 1Y (out)
part B pins: 3 2A (in), 4 2B (in), 12 2Y (out)
part C pins: 5 3A (in), 6 3B (in), 11 3Y (out)
part D pins: 8 4A (in), 9 4B (in), 10 4Y (out)

## TC4469MJD
designator U?
1.2A Quad MOSFET Driver, AND/INV, -55C to +125C Temperature; Manufacturer: Microchip; PartNumber: TC4469MJD; DatasheetVersion: revB, Feb-2003; PackageVersion: revBB, Aug-2009; PackageReference: CERDIP300-JD14; PackageDescription: 14-Lead Ceramic Dual In-Line (JD) - 300mil Body [CERDIP]; Supplier 1: Digi-Key; Supplier Part Number 1: TC4469MJD-ND; Supplier 2: Mouser; Supplier Part Number 2: 579-TC4469MJD; Mounting Technology: Through Hole; ComponentLink1Description: Manufacturer URL; ComponentLink1URL: http://www.microchip.com/; ComponentLink2Description: Datasheet; ComponentLink2URL: http://ww1.microchip.com/downloads/en/DeviceDoc/21425b.pdf; ComponentLink3Description: Package Specification; ComponentLink3URL: http://www.microchip.com/stellent/groups/techpub_sg/documents/packagingspec/en012702.pdf
footprint CERDIP300-JD14 (DIP, 14-Leads, Row Spacing 7.62mm, Pitch 2.54mm, Body 19.3x6.7mm)
pins on every part: 7 GND (power), 14 VDD (power)
part A pins: 1 1A (in), 2 1B (in), 13 1Y (out)
part B pins: 3 2A (in), 4 2B (in), 12 2Y (out)
part C pins: 5 3A (in), 6 3B (in), 11 3Y (out)
part D pins: 8 4A (in), 9 4B (in), 10 4Y (out)

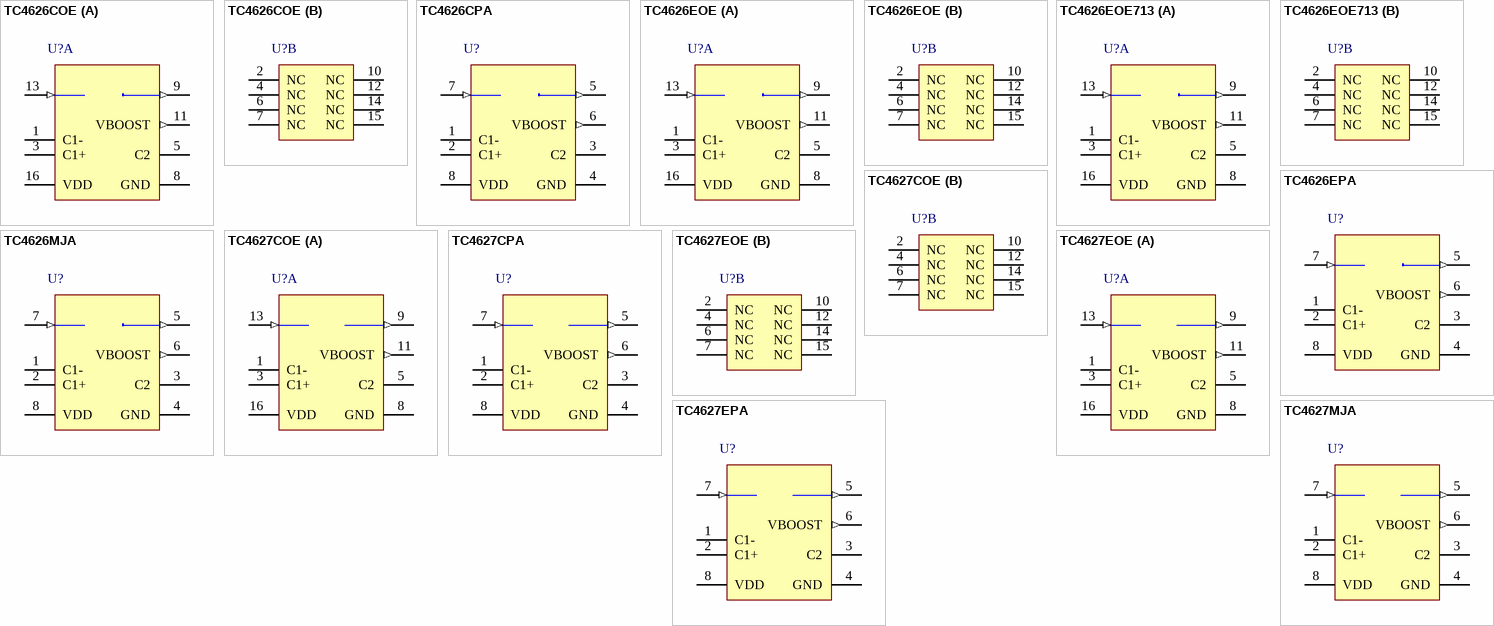
[diagram p26: symbols TC4626COE to TC4627MJA]

## TC4626COE
designator U?
Power CMOS Drivers With Voltage Tripler, Inverting, Commercial Temperature; Manufacturer: Microchip; PartNumber: TC4626COE; DatasheetVersion: Feb-2003; PackageVersion: revBB, Aug-2009; PackageReference: SOIC-OE16; PackageDescription: 16-Lead Plastic Small Outline (OE) - Wide 7.50mm Body [SOIC]; Supplier 1: Digi-Key; Supplier Part Number 1: TC4626COE-ND; Supplier 2: Mouser; Supplier Part Number 2: 579-TC4626COE; Mounting Technology: Surface Mount; Code_JEDEC: MS-013-AA; Code_IPC: SOIC127P1030-16; ComponentLink1Description: Manufacturer URL; ComponentLink1URL: http://www.microchip.com/; ComponentLink2Description: Datasheet; ComponentLink2URL: http://ww1.microchip.com/downloads/en/DeviceDoc/21426b.pdf; ComponentLink3Description: Package Specification; ComponentLink3URL: http://www.microchip.com/stellent/groups/techpub_sg/documents/packagingspec/en012702.pdf
footprint SOIC-OE16_N (SOIC, 16-Leads, Body 10.3x7.5mm, Pitch 1.27mm, IPC Medium Density)
footprint SOIC-OE16_L (SOIC, 16-Leads, Body 10.3x7.5mm, Pitch 1.27mm, IPC High Density)
footprint SOIC-OE16_M (SOIC, 16-Leads, Body 10.3x7.5mm, Pitch 1.27mm, IPC Low Density)
part A pins: 1 C1-, 3 C1+, 5 C2, 8 GND (power), 9 ~{OUT} (out), 11 VBOOST (out), 13 IN (in), 16 VDD (power)
part B pins: 2 NC, 4 NC, 6 NC, 7 NC, 10 NC, 12 NC, 14 NC, 15 NC

## TC4626CPA
designator U?
Power CMOS Drivers With Voltage Tripler, Inverting, Commercial Temperature; Manufacturer: Microchip; PartNumber: TC4626CPA; DatasheetVersion: Feb-2003; PackageVersion: revBB, Aug-2009; PackageReference: PDIP300-PA8; PackageDescription: 8-Lead Plastic Dual In-Line (PA) - 300 mil Body [PDIP]; Supplier 1: Digi-Key; Supplier Part Number 1: TC4626CPA-ND; Supplier 2: Mouser; Supplier Part Number 2: 579-TC4626CPA; Mounting Technology: Through Hole; Code_JEDEC: MS-001-BA; ComponentLink1Description: Manufacturer URL; ComponentLink1URL: http://www.microchip.com/; ComponentLink2Description: Datasheet; ComponentLink2URL: http://ww1.microchip.com/downloads/en/DeviceDoc/21426b.pdf; ComponentLink3Description: Package Specification; ComponentLink3URL: http://www.microchip.com/stellent/groups/techpub_sg/documents/packagingspec/en012702.pdf
footprint PDIP300-PA8 (DIP, 8-Leads, Row Spacing 7.62mm, Pitch 2.54mm, Body 9.5x6.6mm)
pins: 1 C1-, 2 C1+, 3 C2, 4 GND (power), 5 ~{OUT} (out), 6 VBOOST (out), 7 IN (in), 8 VDD (power)

## TC4626EOE
designator U?
Power CMOS Drivers With Voltage Tripler, Inverting, Industrial Temperature; Manufacturer: Microchip; PartNumber: TC4626EOE; DatasheetVersion: Feb-2003; PackageVersion: revBB, Aug-2009; PackageReference: SOIC-OE16; PackageDescription: 16-Lead Plastic Small Outline (OE) - Wide 7.50mm Body [SOIC]; Supplier 1: Digi-Key; Supplier Part Number 1: TC4626EOE-ND; Supplier 2: Farnell; Supplier Part Number 2: 1840857; Supplier 3: Newark; Supplier Part Number 3: 92C6166; Supplier 4: Mouser; Supplier Part Number 4: 579-TC4626EOE; Mounting Technology: Surface Mount; Code_JEDEC: MS-013-AA; Code_IPC: SOIC127P1030-16; ComponentLink1Description: Manufacturer URL; ComponentLink1URL: http://www.microchip.com/; ComponentLink2Description: Datasheet; ComponentLink2URL: http://ww1.microchip.com/downloads/en/DeviceDoc/21426b.pdf; ComponentLink3Description: Package Specification; ComponentLink3URL: http://www.microchip.com/stellent/groups/techpub_sg/documents/packagingspec/en012702.pdf
footprint SOIC-OE16_N (SOIC, 16-Leads, Body 10.3x7.5mm, Pitch 1.27mm, IPC Medium Density)
footprint SOIC-OE16_L (SOIC, 16-Leads, Body 10.3x7.5mm, Pitch 1.27mm, IPC High Density)
footprint SOIC-OE16_M (SOIC, 16-Leads, Body 10.3x7.5mm, Pitch 1.27mm, IPC Low Density)
part A pins: 1 C1-, 3 C1+, 5 C2, 8 GND (power), 9 ~{OUT} (out), 11 VBOOST (out), 13 IN (in), 16 VDD (power)
part B pins: 2 NC, 4 NC, 6 NC, 7 NC, 10 NC, 12 NC, 14 NC, 15 NC

## TC4626EOE713
designator U?
Power CMOS Drivers With Voltage Tripler, Inverting, Industrial Temperature, Tape and Reel; Manufacturer: Microchip; PartNumber: TC4626EOE713; DatasheetVersion: Feb-2003; PackageVersion: revBB, Aug-2009; PackageReference: SOIC-OE16; PackageDescription: 16-Lead Plastic Small Outline (OE) - Wide 7.50mm Body [SOIC]; Supplier 1: Digi-Key; Supplier Part Number 1: TC4626EOE713-ND; Supplier 2: Mouser; Supplier Part Number 2: 579-TC4626EOE713; Mounting Technology: Surface Mount; Code_JEDEC: MS-013-AA; Code_IPC: SOIC127P1030-16; ComponentLink1Description: Manufacturer URL; ComponentLink1URL: http://www.microchip.com/; ComponentLink2Description: Datasheet; ComponentLink2URL: http://ww1.microchip.com/downloads/en/DeviceDoc/21426b.pdf; ComponentLink3Description: Package Specification; ComponentLink3URL: http://www.microchip.com/stellent/groups/techpub_sg/documents/packagingspec/en012702.pdf
footprint SOIC-OE16_N (SOIC, 16-Leads, Body 10.3x7.5mm, Pitch 1.27mm, IPC Medium Density)
footprint SOIC-OE16_L (SOIC, 16-Leads, Body 10.3x7.5mm, Pitch 1.27mm, IPC High Density)
footprint SOIC-OE16_M (SOIC, 16-Leads, Body 10.3x7.5mm, Pitch 1.27mm, IPC Low Density)
part A pins: 1 C1-, 3 C1+, 5 C2, 8 GND (power), 9 ~{OUT} (out), 11 VBOOST (out), 13 IN (in), 16 VDD (power)
part B pins: 2 NC, 4 NC, 6 NC, 7 NC, 10 NC, 12 NC, 14 NC, 15 NC

## TC4626EPA
designator U?
Power CMOS Drivers With Voltage Tripler, Inverting, Industrial Temperature; Manufacturer: Microchip; PartNumber: TC4626EPA; DatasheetVersion: Feb-2003; PackageVersion: revBB, Aug-2009; PackageReference: PDIP300-PA8; PackageDescription: 8-Lead Plastic Dual In-Line (PA) - 300 mil Body [PDIP]; Supplier 1: Digi-Key; Supplier Part Number 1: TC4626EPA-ND; Supplier 2: Mouser; Supplier Part Number 2: 579-TC4626EPA; Mounting Technology: Through Hole; Code_JEDEC: MS-001-BA; ComponentLink1Description: Manufacturer URL; ComponentLink1URL: http://www.microchip.com/; ComponentLink2Description: Datasheet; ComponentLink2URL: http://ww1.microchip.com/downloads/en/DeviceDoc/21426b.pdf; ComponentLink3Description: Package Specification; ComponentLink3URL: http://www.microchip.com/stellent/groups/techpub_sg/documents/packagingspec/en012702.pdf
footprint PDIP300-PA8 (DIP, 8-Leads, Row Spacing 7.62mm, Pitch 2.54mm, Body 9.5x6.6mm)
pins: 1 C1-, 2 C1+, 3 C2, 4 GND (power), 5 ~{OUT} (out), 6 VBOOST (out), 7 IN (in), 8 VDD (power)

## TC4626MJA
designator U?
Power CMOS Drivers With Voltage Tripler, Inverting, -55C to +125C Temperature; Manufacturer: Microchip; PartNumber: TC4626MJA; DatasheetVersion: Feb-2003; PackageVersion: revBB, Aug-2009; PackageReference: CERDIP300-JA8; PackageDescription: 8-Lead Ceramic Dual In-Line (JA) - 300mil Body [CERDIP]; Supplier 1: Digi-Key; Supplier Part Number 1: TC4626MJA-ND; Supplier 2: Mouser; Supplier Part Number 2: 579-TC4626MJA; Mounting Technology: Through Hole; ComponentLink1Description: Manufacturer URL; ComponentLink1URL: http://www.microchip.com/; ComponentLink2Description: Datasheet; ComponentLink2URL: http://ww1.microchip.com/downloads/en/DeviceDoc/21426b.pdf; ComponentLink3Description: Package Specification; ComponentLink3URL: http://www.microchip.com/stellent/groups/techpub_sg/documents/packagingspec/en012702.pdf
footprint CERDIP300-JA8 (DIP, 8-Leads, Row Spacing 7.62mm, Pitch 2.54mm, Body 9.8x6.7mm)
pins: 1 C1-, 2 C1+, 3 C2, 4 GND (power), 5 ~{OUT} (out), 6 VBOOST (out), 7 IN (in), 8 VDD (power)

## TC4627COE
designator U?
Power CMOS Drivers With Voltage Tripler, Non Inverting, Commercial Temperature; Manufacturer: Microchip; PartNumber: TC4627COE; DatasheetVersion: Feb-2003; PackageVersion: revBB, Aug-2009; PackageReference: SOIC-OE16; PackageDescription: 16-Lead Plastic Small Outline (OE) - Wide 7.50mm Body [SOIC]; Supplier 1: Digi-Key; Supplier Part Number 1: TC4627COE-ND; Supplier 2: Mouser; Supplier Part Number 2: 579-TC4627COE; Mounting Technology: Surface Mount; Code_JEDEC: MS-013-AA; Code_IPC: SOIC127P1030-16; ComponentLink1Description: Manufacturer URL; ComponentLink1URL: http://www.microchip.com/; ComponentLink2Description: Datasheet; ComponentLink2URL: http://ww1.microchip.com/downloads/en/DeviceDoc/21426b.pdf; ComponentLink3Description: Package Specification; ComponentLink3URL: http://www.microchip.com/stellent/groups/techpub_sg/documents/packagingspec/en012702.pdf
footprint SOIC-OE16_N (SOIC, 16-Leads, Body 10.3x7.5mm, Pitch 1.27mm, IPC Medium Density)
footprint SOIC-OE16_L (SOIC, 16-Leads, Body 10.3x7.5mm, Pitch 1.27mm, IPC High Density)
footprint SOIC-OE16_M (SOIC, 16-Leads, Body 10.3x7.5mm, Pitch 1.27mm, IPC Low Density)
part A pins: 1 C1-, 3 C1+, 5 C2, 8 GND (power), 9 OUT (out), 11 VBOOST (out), 13 IN (in), 16 VDD (power)
part B pins: 2 NC, 4 NC, 6 NC, 7 NC, 10 NC, 12 NC, 14 NC, 15 NC

## TC4627CPA
designator U?
Power CMOS Drivers With Voltage Tripler, Non Inverting, Commercial Temperature; Manufacturer: Microchip; PartNumber: TC4627CPA; DatasheetVersion: Feb-2003; PackageVersion: revBB, Aug-2009; PackageReference: PDIP300-PA8; PackageDescription: 8-Lead Plastic Dual In-Line (PA) - 300 mil Body [PDIP]; Supplier 1: Digi-Key; Supplier Part Number 1: TC4627CPA-ND; Supplier 2: Mouser; Supplier Part Number 2: 579-TC4627CPA; Mounting Technology: Through Hole; Code_JEDEC: MS-001-BA; ComponentLink1Description: Manufacturer URL; ComponentLink1URL: http://www.microchip.com/; ComponentLink2Description: Datasheet; ComponentLink2URL: http://ww1.microchip.com/downloads/en/DeviceDoc/21426b.pdf; ComponentLink3Description: Package Specification; ComponentLink3URL: http://www.microchip.com/stellent/groups/techpub_sg/documents/packagingspec/en012702.pdf
footprint PDIP300-PA8 (DIP, 8-Leads, Row Spacing 7.62mm, Pitch 2.54mm, Body 9.5x6.6mm)
pins: 1 C1-, 2 C1+, 3 C2, 4 GND (power), 5 OUT (out), 6 VBOOST (out), 7 IN (in), 8 VDD (power)

## TC4627EOE
designator U?
Power CMOS Drivers With Voltage Tripler, Non Inverting, Industrial Temperature; Manufacturer: Microchip; PartNumber: TC4627EOE; DatasheetVersion: Feb-2003; PackageVersion: revBB, Aug-2009; PackageReference: SOIC-OE16; PackageDescription: 16-Lead Plastic Small Outline (OE) - Wide 7.50mm Body [SOIC]; Supplier 1: Digi-Key; Supplier Part Number 1: TC4627EOE-ND; Supplier 2: Farnell; Supplier Part Number 2: 1840853; Supplier 3: Newark; Supplier Part Number 3: 92C6173; Supplier 4: Mouser; Supplier Part Number 4: 579-TC4627EOE; Mounting Technology: Surface Mount; Code_JEDEC: MS-013-AA; Code_IPC: SOIC127P1030-16; ComponentLink1Description: Manufacturer URL; ComponentLink1URL: http://www.microchip.com/; ComponentLink2Description: Datasheet; ComponentLink2URL: http://ww1.microchip.com/downloads/en/DeviceDoc/21426b.pdf; ComponentLink3Description: Package Specification; ComponentLink3URL: http://www.microchip.com/stellent/groups/techpub_sg/documents/packagingspec/en012702.pdf
footprint SOIC-OE16_N (SOIC, 16-Leads, Body 10.3x7.5mm, Pitch 1.27mm, IPC Medium Density)
footprint SOIC-OE16_L (SOIC, 16-Leads, Body 10.3x7.5mm, Pitch 1.27mm, IPC High Density)
footprint SOIC-OE16_M (SOIC, 16-Leads, Body 10.3x7.5mm, Pitch 1.27mm, IPC Low Density)
part A pins: 1 C1-, 3 C1+, 5 C2, 8 GND (power), 9 OUT (out), 11 VBOOST (out), 13 IN (in), 16 VDD (power)
part B pins: 2 NC, 4 NC, 6 NC, 7 NC, 10 NC, 12 NC, 14 NC, 15 NC

## TC4627EPA
designator U?
Power CMOS Drivers With Voltage Tripler, Non Inverting, Industrial Temperature; Manufacturer: Microchip; PartNumber: TC4627EPA; DatasheetVersion: Feb-2003; PackageVersion: revBB, Aug-2009; PackageReference: PDIP300-PA8; PackageDescription: 8-Lead Plastic Dual In-Line (PA) - 300 mil Body [PDIP]; Supplier 1: Digi-Key; Supplier Part Number 1: TC4627EPA-ND; Supplier 2: Mouser; Supplier Part Number 2: 579-TC4627EPA; Mounting Technology: Through Hole; Code_JEDEC: MS-001-BA; ComponentLink1Description: Manufacturer URL; ComponentLink1URL: http://www.microchip.com/; ComponentLink2Description: Datasheet; ComponentLink2URL: http://ww1.microchip.com/downloads/en/DeviceDoc/21426b.pdf; ComponentLink3Description: Package Specification; ComponentLink3URL: http://www.microchip.com/stellent/groups/techpub_sg/documents/packagingspec/en012702.pdf
footprint PDIP300-PA8 (DIP, 8-Leads, Row Spacing 7.62mm, Pitch 2.54mm, Body 9.5x6.6mm)
pins: 1 C1-, 2 C1+, 3 C2, 4 GND (power), 5 OUT (out), 6 VBOOST (out), 7 IN (in), 8 VDD (power)

## TC4627MJA
designator U?
Power CMOS Drivers With Voltage Tripler, Non Inverting, -55C to +125C Temperature; Manufacturer: Microchip; PartNumber: TC4627MJA; DatasheetVersion: Feb-2003; PackageVersion: revBB, Aug-2009; PackageReference: CERDIP300-JA8; PackageDescription: 8-Lead Ceramic Dual In-Line (JA) - 300mil Body [CERDIP]; Supplier 1: Digi-Key; Supplier Part Number 1: TC4627MJA-ND; Supplier 2: Mouser; Supplier Part Number 2: 579-TC4627MJA; Mounting Technology: Through Hole; ComponentLink1Description: Manufacturer URL; ComponentLink1URL: http://www.microchip.com/; ComponentLink2Description: Datasheet; ComponentLink2URL: http://ww1.microchip.com/downloads/en/DeviceDoc/21426b.pdf; ComponentLink3Description: Package Specification; ComponentLink3URL: http://www.microchip.com/stellent/groups/techpub_sg/documents/packagingspec/en012702.pdf
footprint CERDIP300-JA8 (DIP, 8-Leads, Row Spacing 7.62mm, Pitch 2.54mm, Body 9.8x6.7mm)
pins: 1 C1-, 2 C1+, 3 C2, 4 GND (power), 5 OUT (out), 6 VBOOST (out), 7 IN (in), 8 VDD (power)